# EAGLE library part ESP32-S2-WROOM-I_M22S2H3200UH3 (library ESP32-S2-WROOM-I_M22S2H3200UH3)
WiFi Modules (802.11) Module ESP32-S2 WROOM IPEX ANT Source: Datasheet <https://www.espressif.com/sites/default/files/documentation/esp32-s2-wroom_esp32-s2-wroom-i_datasheet_en.pdf>
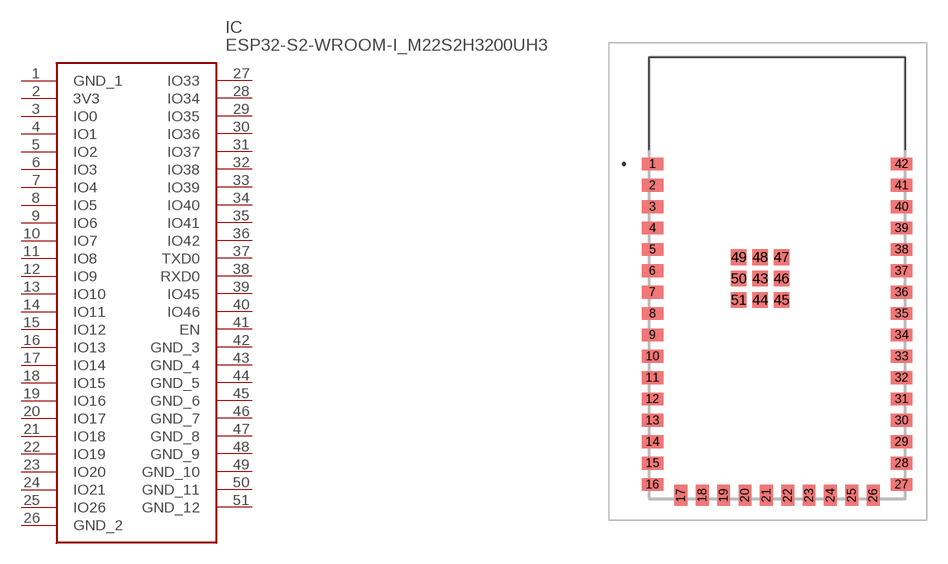
[diagram p0: symbol with the pads of ESP32S2WROOMIM22S2H3200UH3Q0; footprint ESP32S2WROOMIM22S2H3200UH3Q0]

Designator prefix IC

## ESP32-S2-WROOM-I_M22S2H3200UH3 (Description: WiFi Modules (802.11) Module ESP32-S2 WROOM IPEX ANT; Height: 3.45mm; Manufacturer_Name: Espressif Systems; Manufacturer_Part_Number: ESP32-S2-WROOM-I(M22S2H3200UH3Q0); Mouser_Part_Number: 356-ESP32S2WRMI320UH; Mouser_Price-Stock: https://www.mouser.co.uk/ProductDetail/Espressif-Systems/ESP32-S2-WROOM-IM22S2H3200UH3Q0?qs=vHuUswq2%252BswK%2FNdFP9puyg%3D%3D)  [ESP32S2WROOMIM22S2H3200UH3Q0]
1  GND_1
2  3V3
3  IO0
4  IO1
5  IO2
6  IO3
7  IO4
8  IO5
9  IO6
10  IO7
11  IO8
12  IO9
13  IO10
14  IO11
15  IO12
16  IO13
17  IO14
18  IO15
19  IO16
20  IO17
21  IO18
22  IO19
23  IO20
24  IO21
25  IO26
26  GND_2
27  IO33
28  IO34
29  IO35
30  IO36
31  IO37
32  IO38
33  IO39
34  IO40
35  IO41
36  IO42
37  TXD0
38  RXD0
39  IO45
40  IO46
41  EN
42  GND_3
43  GND_4
44  GND_5
45  GND_6
46  GND_7
47  GND_8
48  GND_9
49  GND_10
50  GND_11
51  GND_12

## Footprint ESP32S2WROOMIM22S2H3200UH3Q0 (pad centres in mm)
ESP32-S2-WROOM-I(M22S2H3200UH3Q0)-2
smd 1.5 x 0.9: 1 -8.75,8; 2 -8.75,6.5; 3 -8.75,5; 4 -8.75,3.5; 5 -8.75,2; 6 -8.75,0.5; 7 -8.75,-1; 8 -8.75,-2.5; 9 -8.75,-4; 10 -8.75,-5.5; 11 -8.75,-7; 12 -8.75,-8.5; 13 -8.75,-10; 14 -8.75,-11.5; 15 -8.75,-13; 16 -8.75,-14.5; 27 8.75,-14.5; 28 8.75,-13; 29 8.75,-11.5; 30 8.75,-10; 31 8.75,-8.5; 32 8.75,-7; 33 8.75,-5.5; 34 8.75,-4; 35 8.75,-2.5; 36 8.75,-1; 37 8.75,0.5; 38 8.75,2; 39 8.75,3.5; 40 8.75,5; 41 8.75,6.5; 42 8.75,8
smd 0.9 x 1.5: 17 -6.75,-15.25; 18 -5.25,-15.25; 19 -3.75,-15.25; 20 -2.25,-15.25; 21 -0.75,-15.25; 22 0.75,-15.25; 23 2.25,-15.25; 24 3.75,-15.25; 25 5.25,-15.25; 26 6.75,-15.25
smd 1.1 x 1.1: 43 -1.19,-0.05; 44 -1.19,-1.55; 45 0.31,-1.55; 46 0.31,-0.05; 47 0.31,1.45; 48 -1.19,1.45; 49 -2.69,1.45; 50 -2.69,-0.05; 51 -2.69,-1.55